# Altium schematic symbol library SMD Resistors 0603.SchLib: 112 symbols (part 2 of 2)
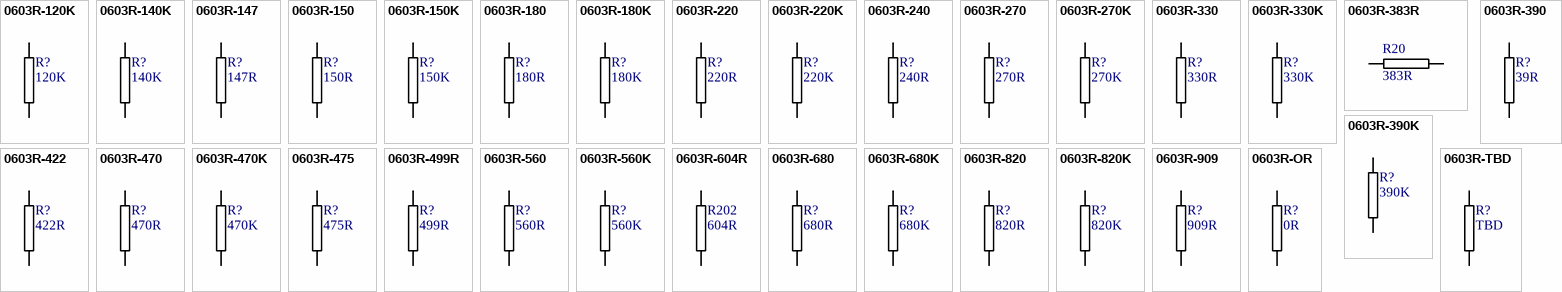
[diagram p3: symbols 0603R-120K to 0603R-TBD]

## 0603R-680
designator R?, comment 680R
GENERIC RESISTOR 0603; Manufacturer Part Number: RMC 1/16 680 1% R; Manufacturer: Stackpole Electronics Inc; Resistance In Ohms: 680; Temperature Coefficient: ±100ppm/°C; Tolerance: ±1%; Power (Watts): 0.1W, 1/10W; Supplier 1: Digi-Key; Supplier Part Number 1: RMC1/16680FR-ND; Packaging: Tape & Reel (TR); Supplier: Digi-Key; Composition: Thick Film; Case: 0603 (1608 metric); Category: Resistors; RoHS: RoHS Compliant; Lead Style: Surface Mount (SMD - SMT); Supplier Part Number: RMC1/16680FR-ND
footprint 0603R-680 (RESISTOR 0603)
pins: 1, 2

## 0603R-680K
designator R?, comment 680K
GENERIC RESISTOR 0603; Manufacturer Part Number: RMC 1/16 680K 1% R; Manufacturer: Stackpole Electronics Inc; Power (Watts): 0.1W, 1/10W; Tolerance: ±1%; Temperature Coefficient: ±100ppm/°C; Supplier 1: Digi-Key; Supplier Part Number 1: RMC1/16680KFR-ND; Case: 0603 (1608 metric); Resistance In Ohms: 680K; Supplier Part Number: RMC1/16680KFR-ND; Composition: Thick Film; Lead Style: Surface Mount (SMD - SMT); Packaging: Tape & Reel (TR); Category: Resistors; Supplier: Digi-Key; RoHS: RoHS Compliant
footprint 0603R-680K (RESISTOR 0603)
pins: 1, 2

## 0603R-820
designator R?, comment 820R
GENERIC RESISTOR 0603; Manufacturer Part Number: RMC 1/16 820 1% R; Manufacturer: Stackpole Electronics Inc; Power (Watts): 0.1W, 1/10W; Tolerance: ±1%; Resistance In Ohms: 820; Temperature Coefficient: ±100ppm/°C; Supplier 1: Digi-Key; Supplier Part Number 1: RMC1/16820FR-ND; RoHS: RoHS non-compliant; Supplier: Digi-Key; Case: 0603 (1608 metric); Lead Style: Surface Mount (SMD - SMT); Composition: Thick Film; Category: Resistors; Packaging: Tape & Reel (TR); Supplier Part Number: RMC1/16820FR-ND
footprint 0603R-820 (RESISTOR 0603)
pins: 1, 2

## 0603R-820K
designator R?, comment 820K
GENERIC RESISTOR 0603; Manufacturer: Stackpole Electronics Inc; Manufacturer Part Number: RMC 1/16 820K 1% R; Power (Watts): 0.1W, 1/10W; Temperature Coefficient: ±100ppm/°C; Tolerance: ±1%; Supplier 1: Digi-Key; Supplier Part Number 1: RMC1/16820KFR-ND; Case: 0603 (1608 metric); RoHS: RoHS non-compliant; Supplier Part Number: RMC1/16820KFR-ND; Category: Resistors; Composition: Thick Film; Packaging: Tape & Reel (TR); Lead Style: Surface Mount (SMD - SMT); Resistance In Ohms: 820K; Supplier: Digi-Key
footprint 0603R-GENERIC (RESISTOR 0603)
pins: 1, 2

## 0603R-909
designator R?, comment 909R
GENERIC RESISTOR 0603; Manufacturer: Stackpole Electronics Inc; Manufacturer Part Number: RMC 1/16 909 1% R; Temperature Coefficient: ±100ppm/°C; Resistance In Ohms: 909; Tolerance: ±1%; Power (Watts): 0.1W, 1/10W; Reel: R25; Supplier 1: Digi-Key; Supplier Part Number 1: RMC1/16909FR-ND; Supplier Part Number: RMC1/16909FR-ND; Category: Resistors; RoHS: RoHS non-compliant; Composition: Thick Film; Lead Style: Surface Mount (SMD - SMT); Packaging: Tape & Reel (TR); Supplier: Digi-Key; Case: 0603 (1608 metric)
footprint 0603R-909 (Footprint not found)
pins: 1, 2

## 0603R-OR
designator R?, comment 0R
GENERIC JUMPER 0603; Manufacturer: Stackpole Electronics Inc; Manufacturer Part Number: RMC 1/16 0 G; Reel: R26; Supplier 1: Digi-Key; Supplier Part Number 1: RMCF0603ZT0R00TR-ND
footprint 0603R-0R (RESISTOR 0603)
footprint 0603R-NI (RESISTOR 0603 NON INSTALLED)
pins: 1, 2

## 0603R-TBD
designator R?, comment TBD
RESISTOR 0603 VALUE TO BE DETERMINED
footprint 0603R-TBD (RESISTOR 0603 VALUE TO BE DETERMINED)
pins: 1, 2